# Altium footprint library Cap_20x20x1x0.5.PcbLib: 1 footprints
Each footprint in its own frame and in the unit in brackets; x right, y up, seen from the top. Pads: shape width x height; smd on the part's side, far side on the other; paste and mask are expansions set on the pad; w line width, h text height; cw(c..) or ccw(c..) is an arc to the next point about the centre after c.
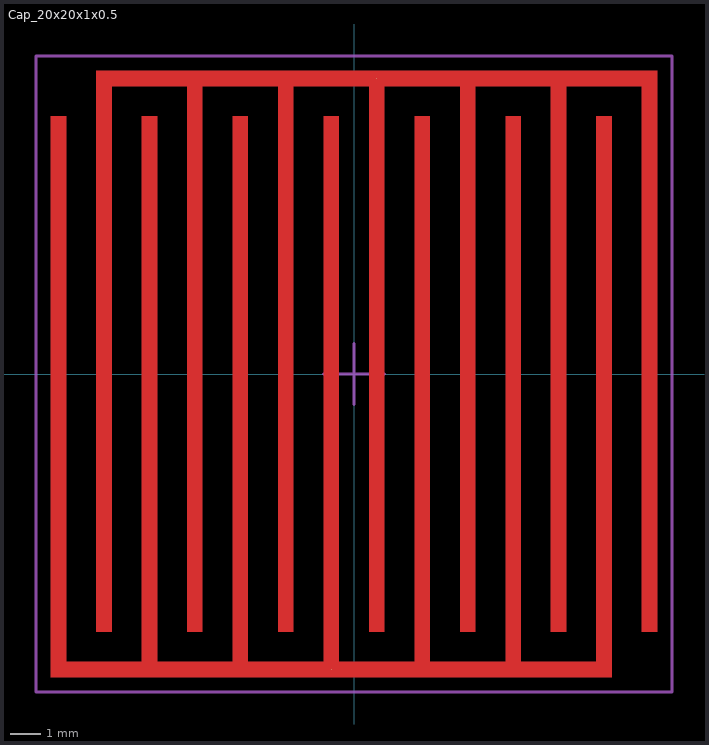
[diagram p0: the footprint, top view; thin cyan lines are the x and y axes]

## Cap_20x20x1x0.5 [mm]
pads (2):
  round 0.025 smd paste-2539.97 mask-1: 1(0.75,9.75) 2(-0.75,-9.75)
Top Layer:
  region: -10,8.5 -9.5,8.5 -9.5,-9.5 -7,-9.5 -7,8.5 -6.5,8.5 -6.5,-9.5 -4,-9.5 -4,8.5 -3.5,8.5 -3.5,-9.5 -1,-9.5 -1,8.5 -0.5,8.5 -0.5,-9.5 2,-9.5 2,8.5 2.5,8.5 2.5,-9.5 5,-9.5 5,8.5 5.5,8.5 5.5,-9.5 8,-9.5 8,8.5 8.5,8.5 8.5,-10 -10,-10
  region: 10,-8.5 9.5,-8.5 9.5,9.5 7,9.5 7,-8.5 6.5,-8.5 6.5,9.5 4,9.5 4,-8.5 3.5,-8.5 3.5,9.5 1,9.5 1,-8.5 0.5,-8.5 0.5,9.5 -2,9.5 -2,-8.5 -2.5,-8.5 -2.5,9.5 -5,9.5 -5,-8.5 -5.5,-8.5 -5.5,9.5 -8,9.5 -8,-8.5 -8.5,-8.5 -8.5,10 10,10
Top Assembly:
  text ".Designator" at -4.8,-0.467 h1
Top Courtyard:
  lines w0.1: -1,0 1,0 ; 0,-1 0,1 ; -10.5,-10.5 10.5,-10.5 10.5,10.5 -10.5,10.5 -10.5,-10.5